# Altium schematic symbol library SCH - SENSOR - TEMPERATURE - MAXIM MAX6605.SchLib: 1 symbol
Pins are listed as number, name and electrical type; pins without a type are passive.

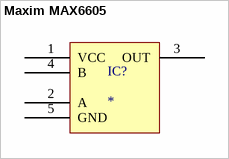
[diagram p0: symbol Maxim MAX6605]

## Maxim MAX6605
designator IC?
pins: 1 VCC, 2 A "GND", 3 OUT, 4 B, 5 GND